# EAGLE library part SCHIEBESCHALTER-2-WECHSLER (library switch)
RS Components - 5F Series Switch Dual Pole switch, 2 states
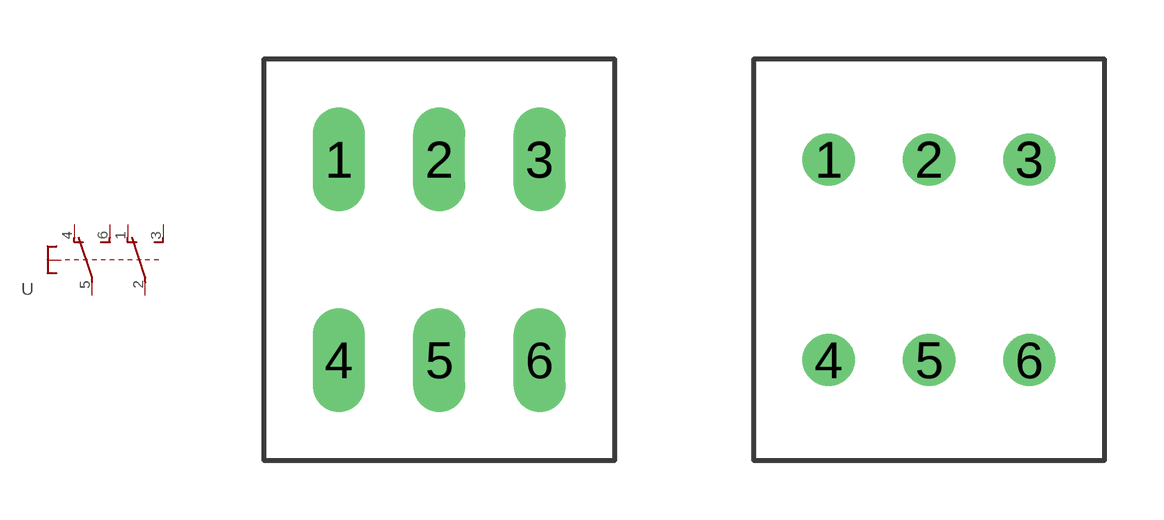
[diagram p2: symbol with the pads of DPDT-M2; footprints DPDT-M2, DPDT-M2-ROUND]

Designator prefix -

## SCHIEBESCHALTER-2-WECHSLER (MANUFACTURER: RS-Components; ORDERNR: 429-509; PARTNR: 5FD1S102M2QE)  [DPDT-M2]
1  O1  pas
2  P1  pas
3  S1  pas
4  O2  pas
5  P2  pas
6  S2  pas

## SCHIEBESCHALTER-2-WECHSLER-ROUNDPAD (MANUFACTURER: RS-Components; ORDERNR: 429-509; PARTNR: 5FD1S102M2QE)  [DPDT-M2-ROUND]
Pads as for DPDT-M2

## Footprint DPDT-M2 (pad centres in mm)
RS Components - 5F Series Switch switch 2 states, 6 pins, throughhole, RM254
drill 0.813 long: 1 -2.54,2.54; 2 0,2.54; 3 2.54,2.54; 4 -2.54,-2.54; 5 0,-2.54; 6 2.54,-2.54

## Footprint DPDT-M2-ROUND (pad centres in mm)
drill 0.813: 1 -2.54,2.54; 2 0,2.54; 3 2.54,2.54; 4 -2.54,-2.54; 5 0,-2.54; 6 2.54,-2.54